# Altium footprint library DT3316P.PcbLib: 1 footprints
Each footprint in its own frame and in the unit in brackets; x right, y up, seen from the top. Pads: shape width x height; smd on the part's side, far side on the other; paste and mask are expansions set on the pad; w line width, h text height; cw(c..) or ccw(c..) is an arc to the next point about the centre after c.
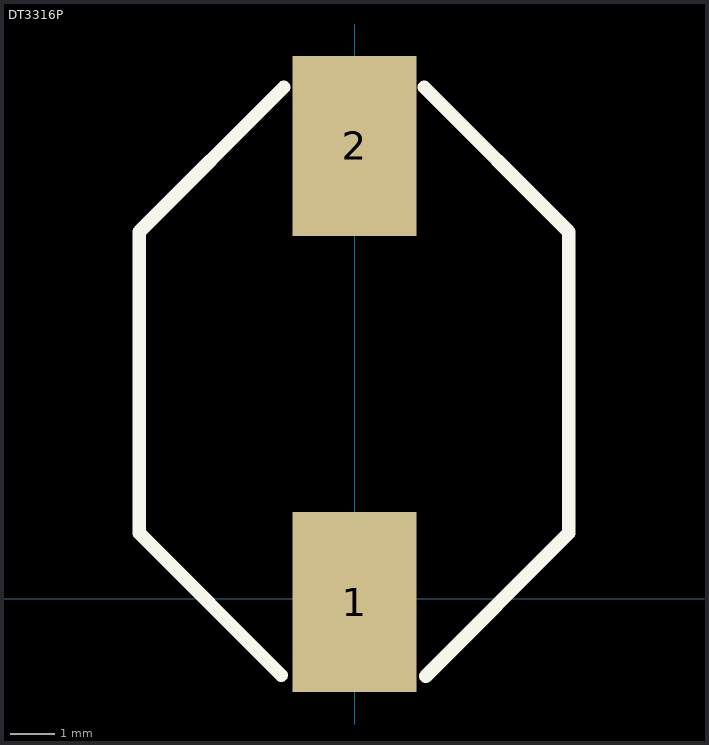
[diagram p0: the footprint, top view; thin cyan lines are the x and y axes]

## DT3316P [mil]
height 190
pads (2):
  rect 110x160 smd: 1(0,-3) 2(0,402)
TopOverlay:
  lines w12: -65,-68 -191,58 -191,66 -191,326 -63,454 ; 62,454 190,326 190,58 63,-69 ; 190,61 190,77
3D body: height 50, standoff 0, extent -185,-54 185,456
3D body: height 200, standoff 0, extent -163.69,36.33 165.01,365.68